# Altium footprint library IHLP-6767GZ.PcbLib: 1 footprints
Each footprint in its own frame and in the unit in brackets; x right, y up, seen from the top. Pads: shape width x height; smd on the part's side, far side on the other; paste and mask are expansions set on the pad; w line width, h text height; cw(c..) or ccw(c..) is an arc to the next point about the centre after c.
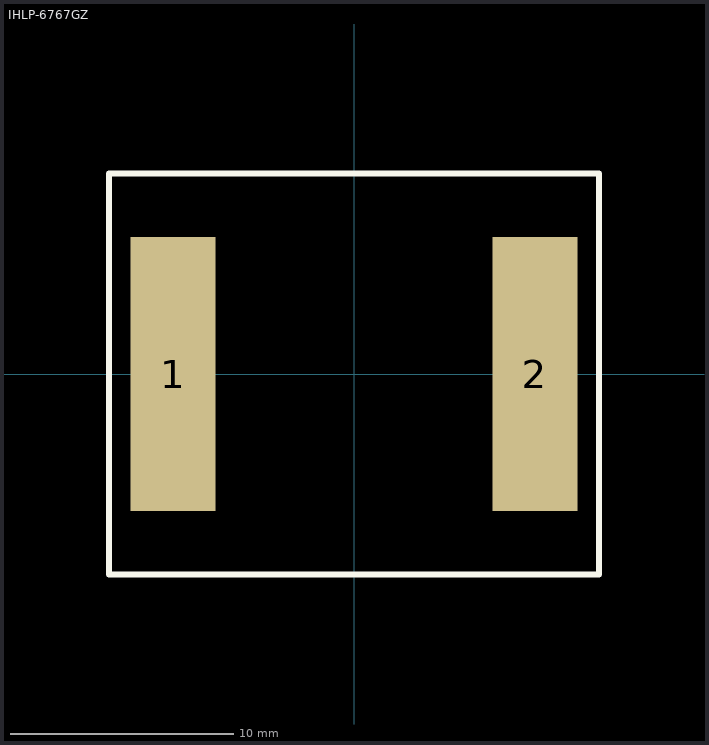
[diagram p0: the footprint, top view; thin cyan lines are the x and y axes]

## IHLP-6767GZ [mm]
pads (2):
  rect 3.825x12.32 smd: 1(-8.123,0) 2(8.123,0)
Top Overlay:
  lines w0.254: -11,-9 -11,9 11,9 11,-9 -11,-9
3D body "IHLP6767GZ.STEP": height 6.9, standoff 0.01, extent -8.588,-8.712 8.588,8.464